# EAGLE library part INDU4C (library radiotubes)
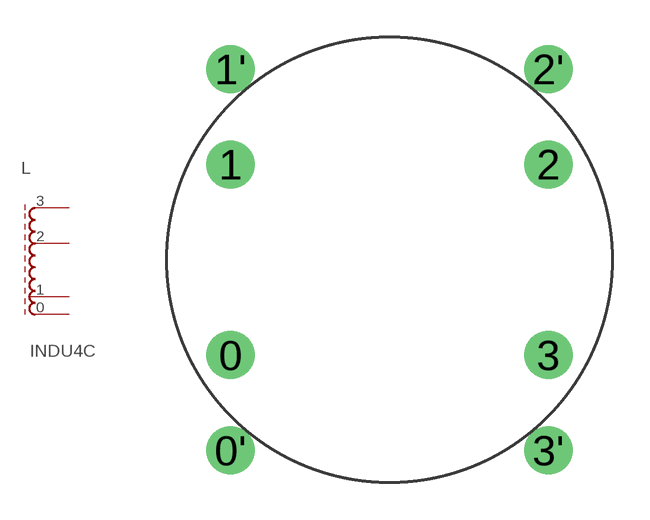
[diagram p127: symbol with the pads of INDU4C; footprint INDU4C]

Designator prefix L

## INDU4C  [INDU4C]
0  0  pas
0'  0'
1  1  pas
1'  1'
2  2  pas
2'  2'
3  3  pas
3'  3'

## Footprint INDU4C (pad centres in mm)
drill 0.813 pad 1.93: 0 -6.35,-3.81; 0' -6.35,-7.62; 1 -6.35,3.81; 1' -6.35,7.62; 2 6.35,3.81; 2' 6.35,7.62; 3 6.35,-3.81; 3' 6.35,-7.62